# Altium footprint library A9.PcbLib: 1 footprints
Each footprint in its own frame and in the unit in brackets; x right, y up, seen from the top. Pads: shape width x height; smd on the part's side, far side on the other; paste and mask are expansions set on the pad; w line width, h text height; cw(c..) or ccw(c..) is an arc to the next point about the centre after c.
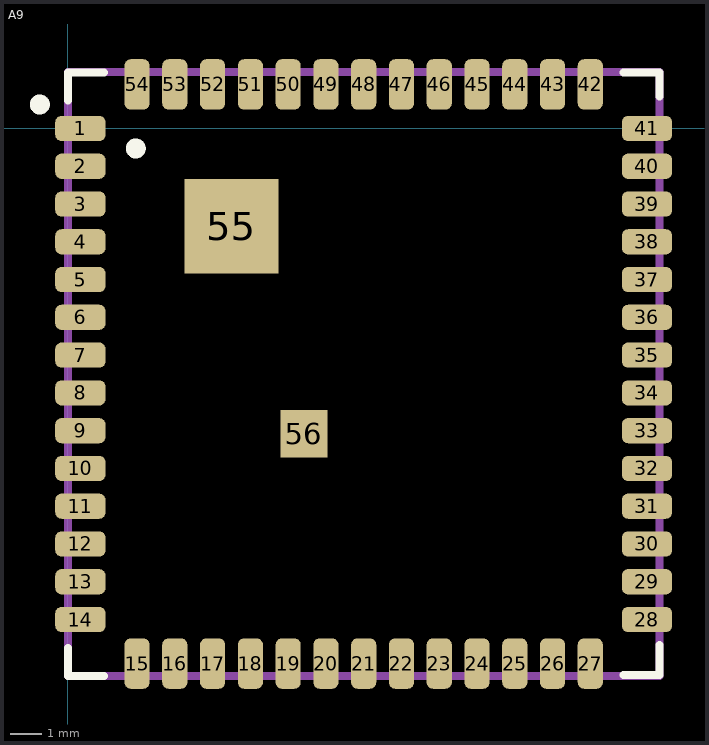
[diagram p0: the footprint, top view; thin cyan lines are the x and y axes]

## A9 [mm]
pads (56):
  rrect50% 1.6x0.8 smd: 1(0.4,0) 2(0.4,-1.2) 3(0.4,-2.4) 4(0.4,-3.6) 5(0.4,-4.8) 6(0.4,-6) 7(0.4,-7.2) 8(0.4,-8.4) 9(0.4,-9.6) 10(0.4,-10.8) 11(0.4,-12) 12(0.4,-13.2) 13(0.4,-14.4) 14(0.4,-15.6) 28(18.4,-15.6) 29(18.4,-14.4) 30(18.4,-13.2) 31(18.4,-12) 32(18.4,-10.8) 33(18.4,-9.6) 34(18.4,-8.4) 35(18.4,-7.2) 36(18.4,-6) 37(18.4,-4.8) 38(18.4,-3.6) 39(18.4,-2.4) 40(18.4,-1.2) 41(18.4,0)
  rrect50% 0.8x1.6 smd: 15(2.2,-17) 16(3.4,-17) 17(4.6,-17) 18(5.8,-17) 19(7,-17) 20(8.2,-17) 21(9.4,-17) 22(10.6,-17) 23(11.8,-17) 24(13,-17) 25(14.2,-17) 26(15.4,-17) 27(16.6,-17) 42(16.6,1.4) 43(15.4,1.4) 44(14.2,1.4) 45(13,1.4) 46(11.8,1.4) 47(10.6,1.4) 48(9.4,1.4) 49(8.2,1.4) 50(7,1.4) 51(5.8,1.4) 52(4.6,1.4) 53(3.4,1.4) 54(2.2,1.4)
  rect 3x3 smd: 55(5.2,-3.1)
  rect 1.5x1.5 smd: 56(7.5,-9.7)
Top Overlay:
  circle w0.381: c2.159,-0.635 r0.127
  circle w0.381: c-0.889,0.762 r0.127
  lines w0.254: 0,-16.51 0,-17.399 1.143,-17.399 ; 0,0.889 0,1.778 1.147,1.778 ; 17.653,-17.367 18.796,-17.367 18.796,-16.415 ; 17.653,1.778 18.796,1.778 18.796,1.016
Mechanical 1:
  lines w0.254: 0,-17.4 0,1.8 18.8,1.8 18.8,-17.4 0,-17.4